# Altium footprint library device.PcbLib: 49 footprints (part 3 of 4)
Each footprint in its own frame and in the unit in brackets; x right, y up, seen from the top. Pads: shape width x height; smd on the part's side, far side on the other; paste and mask are expansions set on the pad; w line width, h text height; cw(c..) or ccw(c..) is an arc to the next point about the centre after c.
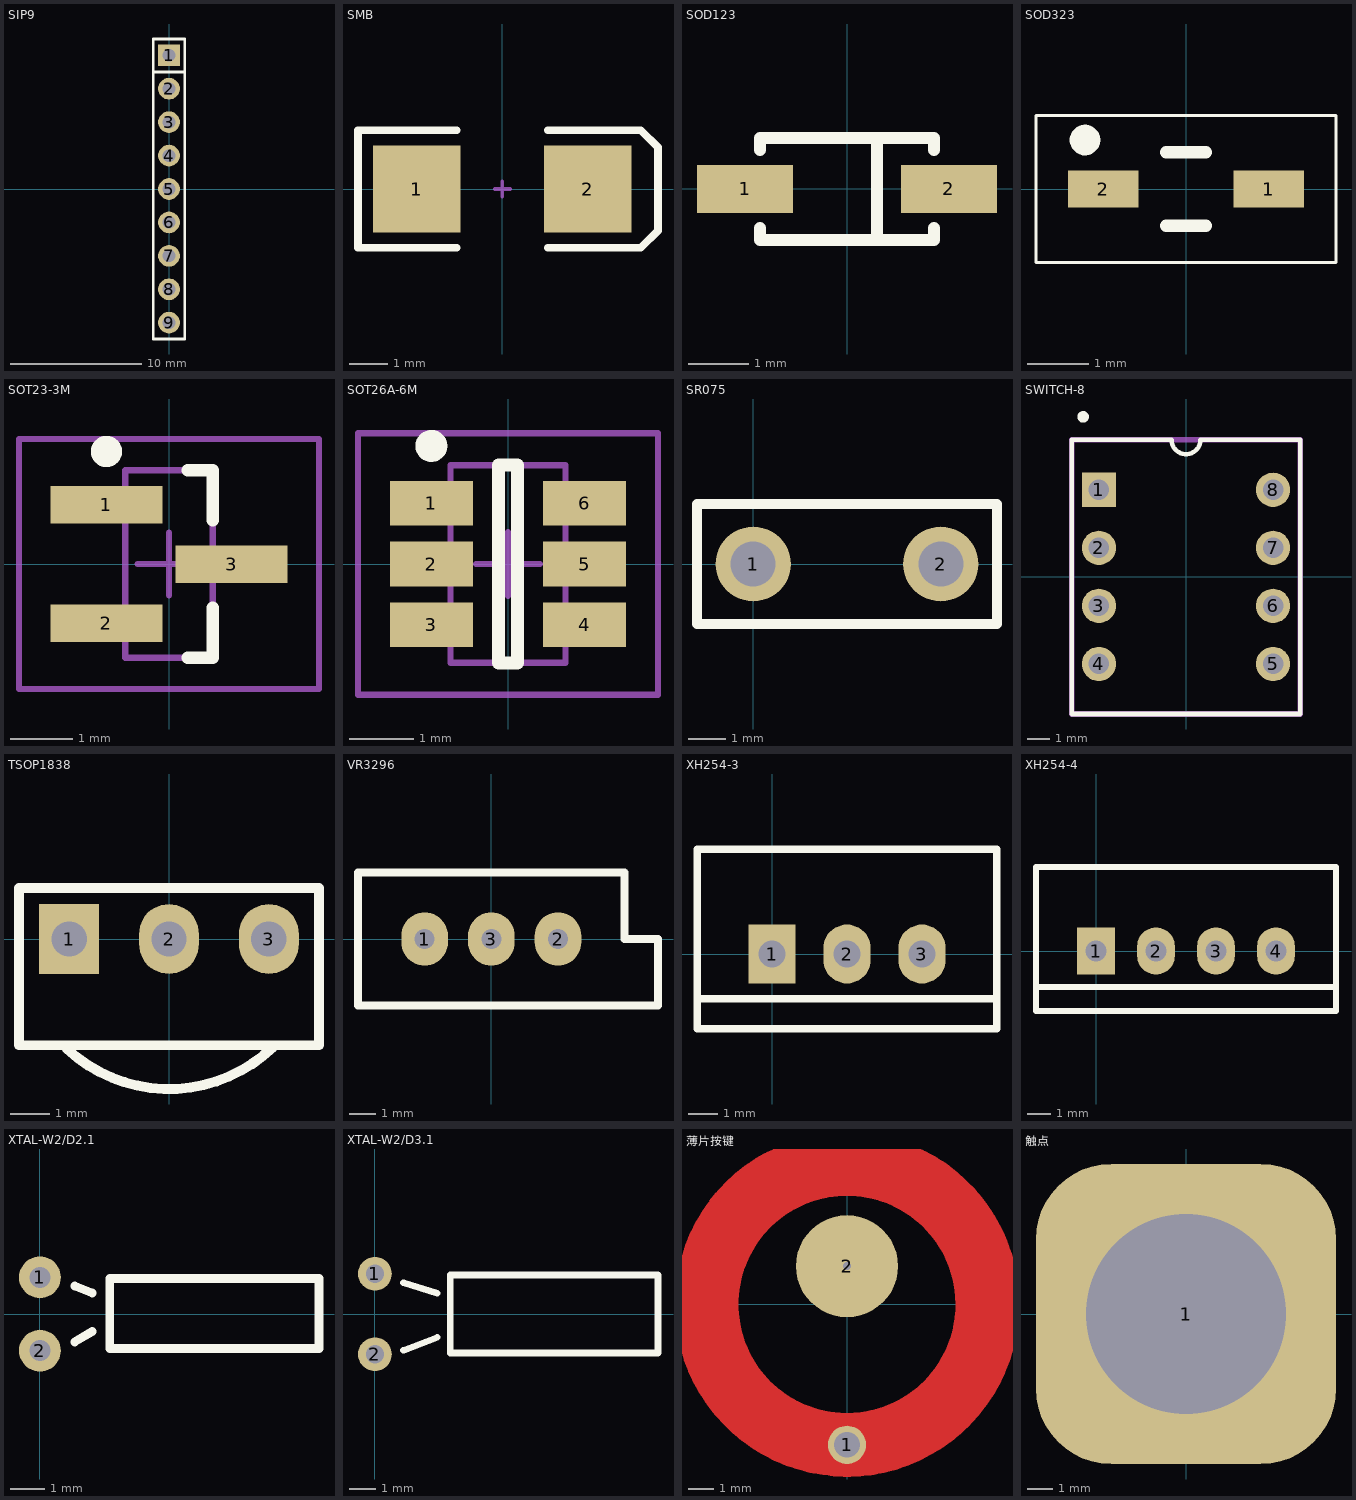
[diagram p2: the footprints below, top view; thin cyan lines are the x and y axes]

## SIP9 [mm]
pads (9):
  rect 1.65x1.65 / inner round 1.65 / far side rect 1.65x1.65 hole 0.95: 1(0,10.16)
  round 1.65 hole 0.95: 2(0,7.62) 3(0,5.08) 4(0,2.54) 5(0,0) 6(0,-2.54) 7(0,-5.08) 8(0,-7.62) 9(0,-10.16)
Top Overlay:
  lines w0.2: -1.2,8.89 1.2,8.89 ; -1.2,-11.4 -1.2,11.4 1.2,11.4 1.2,-11.4 -1.2,-11.4
Mechanical 15:
  text "1" at 0.45,-0.164 h0.75

## SMB [mm] "DO-214-AA/SMB; 2 C-Bend Leads; Body 5.3 x 3.6 mm, inc. leads (LxW)"
height 2.54
pads (2):
  rect 2.3x2.3 smd: 1(-2.25,0) 2(2.25,0)
Top Overlay:
  lines w0.2: -1.2,-1.55 -3.8,-1.55 -3.8,1.55 -1.2,1.55 ; 1.2,-1.55 3.65,-1.55 4.1,-1.1 4.1,1.1 3.65,1.55 1.2,1.55
Mechanical 1:
  lines w0.1: -0.2,0 0.2,0 ; 0,-0.2 0,0.2

## SOD123 [mm] "SOD-123; 2 Leads; Body 2.7 x 1.6 mm, (LxW)"
height 1.35
pads (2):
  rect 1.6x0.8 smd: 1(-1.7,0) 2(1.7,0)
Top Overlay:
  lines w0.2: -1.45,-0.65 -1.45,-0.85 1.45,-0.85 1.45,-0.65 ; -1.45,0.65 -1.45,0.85 1.45,0.85 1.45,0.65 ; 0.5,-0.85 0.5,0.85

## SOD323 [mm]
pads (2):
  rect 1.15x0.6 smd: 1(1.35,0) 2(-1.35,0)
Top Overlay:
  circle w0.25: c-1.65,0.8 r0.125
  lines w0.05: -2.45,-1.2 -2.45,1.2 2.45,1.2 2.45,-1.2 -2.45,-1.2
  lines w0.2: -0.325,-0.6 0.325,-0.6 ; -0.325,0.6 0.325,0.6

## SOT23-3M [mm] "SOT23, 3-Leads, Body 2.9x1.3mm, Pitch 0.95mm, Lead Span 2.5mm, IPC Low Density"
height 1.1
pads (3):
  rect 1.8x0.6 smd: 1(-1,0.95) 2(-1,-0.95) 3(1,0)
Top Overlay:
  circle w0.25: c-1,1.8 r0.125
  lines w0.2: 0.3,-1.5 0.7,-1.5 0.7,-0.7 ; 0.3,1.5 0.7,1.5 0.7,0.7
Mechanical 13:
  lines w0.1: -0.7,-1.5 -0.7,1.5 0.7,1.5 0.7,-1.5 -0.7,-1.5
Mechanical 15:
  lines w0.1: -0.5,0 0.5,0 ; 0,-0.5 0,0.5 ; -2.4,-2 -2.4,2 2.4,2 2.4,-2 -2.4,-2
3D body: height 1.1, standoff 0, extent -0.7,-1.5 0.7,1.5

## SOT26A-6M [mm]
pads (6):
  rect 1.3x0.7 smd: 1(-1.2,0.95) 2(-1.2,0) 3(-1.2,-0.95) 4(1.2,-0.95) 5(1.2,0) 6(1.2,0.95)
Top Overlay:
  circle w0.25: c-1.2,1.85 r0.125
  lines w0.2: -0.15,-1.55 0.15,-1.55 0.15,1.55 -0.15,1.55 -0.15,-1.55
Mechanical 13:
  lines w0.1: -0.9,-1.55 -0.9,1.55 0.9,1.55 0.9,-1.55 -0.9,-1.55
Mechanical 15:
  lines w0.1: -0.5,0 0.5,0 ; 0,-0.5 0,0.5 ; -2.35,-2.05 -2.35,2.05 2.35,2.05 2.35,-2.05 -2.35,-2.05
3D body: height 0, standoff 0, extent -0.9,-1.55 0.9,1.55

## SR075 [mm]
pads (2):
  round 2 hole 1.2: 1(0,0) 2(5,0)
Top Overlay:
  lines w0.254: -1.5,-1.6 -1.5,1.6 6.5,1.6 6.5,-1.6 -1.5,-1.6

## SWITCH-8 [mm] "DIP; 8 Leads; Row Spacing 7.62 mm; Pitch 2.54 mm"
height 5.08
pads (8):
  rect 1.5x1.5 hole 0.9: 1(-3.81,3.81)
  round 1.5 hole 0.9: 2(-3.81,1.27) 3(-3.81,-1.27) 4(-3.81,-3.81) 5(3.81,-3.81) 6(3.81,-1.27) 7(3.81,1.27) 8(3.81,3.81)
Top Overlay:
  circle w0.25: c-4.5,7 r0.125
  lines w0.2: -5,-6 -5,6 -0.635,6 ccw(c0,6) 0.635,6 5,6 5,-6 -5,-6
Mechanical 1:
  lines w0.254: -5,-6 -5,6 5,6 5,-6 -5,-6
3D body: height 6.2, standoff 1, extent -5,-6 5,6

## TSOP1838 [mil]
pads (3):
  rect 60x70 hole 35.43: 1(-100,0)
  oval 60x70 hole 35.43: 2(0,0) 3(100,0)
Top Overlay:
  lines w10: -150,50 -150,-106.3 150,-106.3 150,50 ; -150,51.18 150,51.18 ; -101.96,-110.12 ccw(c0,0) 104.1,-108.1

## VR3296 [mil]
pads (3):
  oval 70x80 hole 30: 1(-100,0) 2(100,0) 3(0,0)
Top Overlay:
  lines w12: -200,-100 250,-100 250,0 200,0 200,100 -200,100 -200,-100

## XH254-3 [mm]
pads (3):
  rect 1.6x2 hole 0.9: 1(0,0)
  oval 1.6x2 hole 0.9: 2(2.54,0) 3(5.08,0)
Top Overlay:
  lines w0.254: -2.54,-1.524 7.62,-1.524 ; -2.54,-2.54 7.62,-2.54 7.62,3.556 -2.54,3.556 -2.54,0.508 -2.54,-2.54

## XH254-4 [mm]
pads (4):
  rect 1.6x2 hole 0.9: 1(0,0)
  oval 1.6x2 hole 0.9: 2(2.54,0) 3(5.08,0) 4(7.62,0)
Top Overlay:
  lines w0.254: -2.54,-1.524 10.16,-1.524 ; -2.54,-2.54 -2.54,0.508 -2.54,3.556 10.16,3.556 10.16,-2.54 9.652,-2.54 -2.54,-2.54

## XTAL-W2/D2.1 [mm] "Crystal, Thru-Hole; 2 Leads; Body 2.1 x 6.2 mm (Dia.xH)"
height 6.2
pads (2):
  round 1.2 hole 0.6: 1(0,1.05) 2(0,-1.05)
Top Overlay:
  lines w0.254: 1,-0.8 1.5,-0.5 ; 1,0.8 1.5,0.6 ; 2,-0.984 2,1.016 8,1.016 8,-0.984 2,-0.984

## XTAL-W2/D3.1 [mm] "Crystal, Thru-Hole; 2 Leads; Body 3.1 x 8.2 mm (Dia.xH)"
height 8.2
pads (2):
  round 1.3 hole 0.7: 1(0,1.55) 2(0,-1.55)
Top Overlay:
  lines w0.254: 1.1,-1.4 2.4,-0.9 ; 1.1,1.2 2.4,0.8 ; 2.9,-1.5 2.9,1.5 10.9,1.5 10.9,-1.5 2.9,-1.5

## 薄片按键 [mm]
pads (2):
  round 1.5 hole 1: 1(0,-5.5)
  round 4 smd: 2(0,1.5)
via 0,1.5 diameter 0.61 hole 0.305
Top Layer:
  lines w2.5: 4.216,3.532 cw(c0,0) 0,-5.5 cw(c0,0) 5.5,0
Top Paste:
  circle w2.5: c0,0 r5.5
Top Solder:
  circle w2.7: c0,0 r5.5

## 触点 [mm]
pads (2):
  round 0 hole 8: 0(0,0)
  rrect50% 12x12 smd: 1(0,0)